# EAGLE library part 1324ПС3 (library microwave)
АЕЯР.431000.760–01 ТУ 1324ПС3 - СВЧ МИС широкополосного двойного балансного активного смесителя с усилителем ограничителем по входу гетеродина, который обеспечивает неизменные характеристики смесителя вдиапазоне мощностей сигнала на входе гетеродина -10...+5 дБм. Допускает симметричное и несимметричное подключение сигналов на вход РЧ и выход ПЧ. Достоинства: ► Диапазон входных частот 0,01-1,9 ГГц ► Диапазон выходных частот 0,01-1,9 ГГц ► Однополярное питание +5 В ► Диапазон рабочих температур -60…+85 °С Электрические параметры при Uп=5 В, Pгет=0 дБм, fпч=10 МГц, Rн=50 Ом, Т=25 °С, если не указано иного. Параметр, единица измерения Условия 1324ПС3У мин. тип. макс. Верхняя граничная частота по входам, ГГц Ррч=-20 дБм 1,2 1,9 Верхняя граничная частота по выходу ПЧ, ГГц Ррч=-20 дБм 1,2 1,9 Коэффициент преобразования, дБ Ррч=-20 дБм -3,0 0 Точка компрессии по входу, дБм -3,5 Коэффициент шума, дБ 11,5 Изоляция ПЧ от РЧ, дБ fрч=500 МГц 25 Изоляция ПЧ от гетеродина, дБ fгет=500 МГц 20 Изоляция РЧ от гетеродина, дБ fгет=500 МГц 40 Ток потребления, мА 85 100 Диапазон рабочих температур, °С -60 +85 Тепловое сопротивление «переход-среда», °С/Вт Корпус 5140.8-АНЗ 100 Производитель: ОАО «НПП «ПУЛЬСАР», г. Москва.
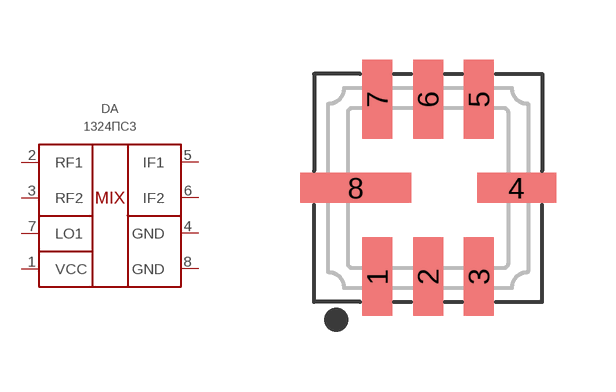
[diagram p0: symbol with the pads of 5140.8-АН3; footprint 5140.8-АН3]

Designator prefix DA

## 1324ПС3У  [5140.8-АН3]
1  VCC  pwr
2  RF1  in
3  RF2  in
4  GND  pwr
5  IF1  out
6  IF2  out
7  LO1  in
8  GND  pwr

## Footprint 5140.8-АН3 (pad centres in mm)
smd 0.75 x 1.97: 1 -1.27,-2.215; 2 0,-2.215; 3 1.27,-2.215; 5 1.27,2.215; 6 0,2.215; 7 -1.27,2.215
smd 1.97 x 0.75: 4 2.215,0
smd 2.78 x 0.75: 8 -1.81,0